# Altium schematic symbol library Maxim Amplifiers and Comparators.SchLib: 420 symbols (part 13 of 16)
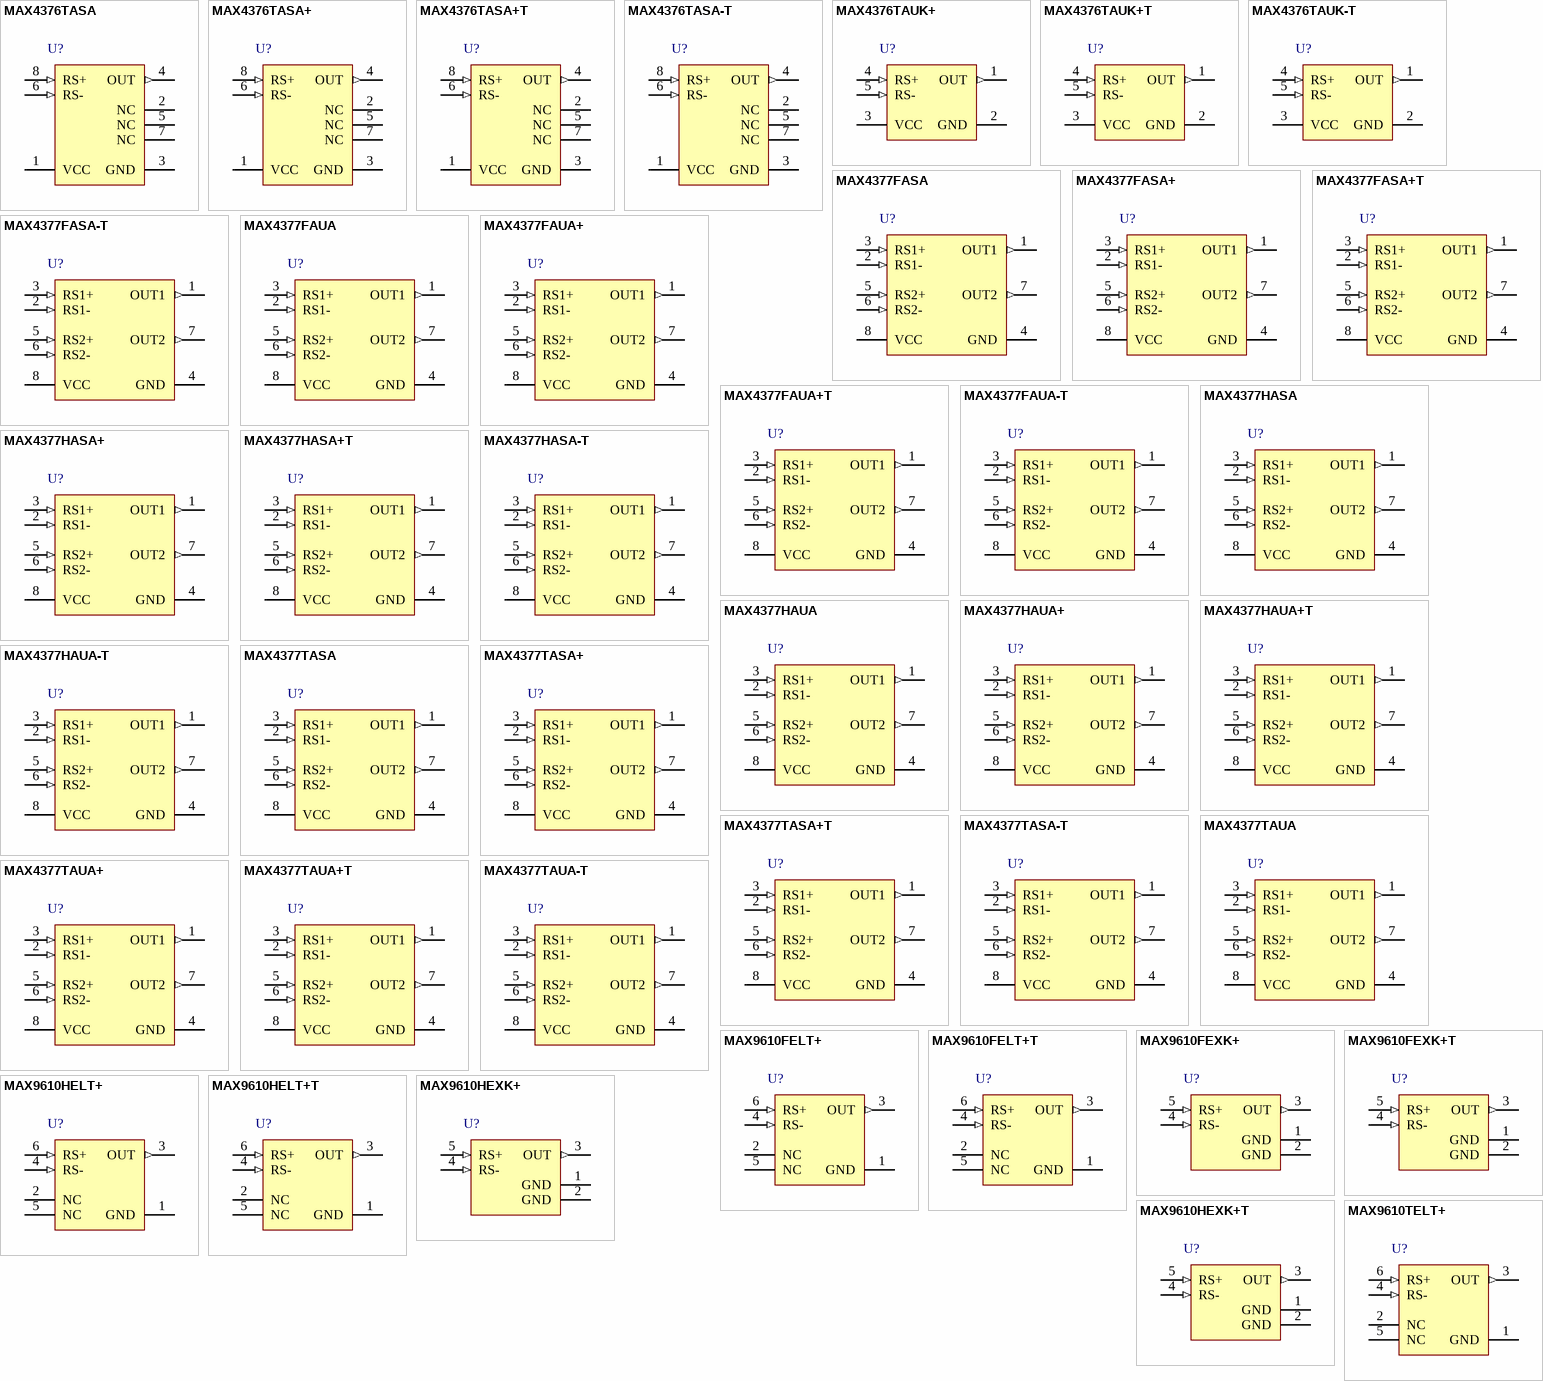
[diagram p22: symbols MAX4376TASA to MAX9610TELT+]

## MAX9610FEXK+T
designator U?
1 uA, Lithium-Ion Battery, Precision Current-Sense Amplifier, 50 V / V Gain, -40 to 85 degC, 5-Pin SOT23 (X5+1), Pb-Free, Tape and Reel; PartNumber: MAX9610FEXK+T; Bi-Dir. Curr. Sense: No; Gain: 25 V/V, 50 V/V ,100 V/V; DatasheetVersion: Rev. 0; PackageVersion: Rev. F, 06/2011; PackageReference: X5+1; PackageDescription: 5-Pin SC70 Transistor Package (X5+1), Body 2 x 1.25 mm, Pitch 0.65 mm; Supplier 1: Digi-Key; Supplier Part Number 1: MAX9610FEXK+T-ND; Supplier 2: Mouser; Supplier Part Number 2: 700-MAX9610FEXK+T; Mounting Technology: Surface Mount; Code_JEDEC: MO-203; ComponentLink1Description: Manufacturer URL; ComponentLink1URL: http://www.maximintegrated.com/; ComponentLink2Description: Datasheet; ComponentLink2URL: http://datasheets.maximintegrated.com/en/ds/MAX9610.pdf; ComponentLink3Description: Package Specification; ComponentLink3URL: http://pdfserv.maximintegrated.com/package_dwgs/21-0076.PDF
footprint MAXM-X5+1_N (SOT23, 5-Leads, Body 2x1.25mm, Pitch 0.65mm, IPC Medium Density)
footprint MAXM-X5+1_L (SOT23, 5-Leads, Body 2x1.25mm, Pitch 0.65mm, IPC High Density)
footprint MAXM-X5+1_M (SOT23, 5-Leads, Body 2x1.25mm, Pitch 0.65mm, IPC Low Density)
pins: 1 GND (power) "Ground", 2 GND (power) "Ground", 3 OUT (out) "Output", 4 RS- (in) "Load- Side Connection to External Sense Resistor", 5 RS+ (in) "Power-Side Connection to External Sense Resistor"

## MAX9610HELT+
designator U?
1 uA, Lithium-Ion Battery, Precision Current-Sense Amplifier, 100 V / V Gain, -40 to 85 degC, 6-Pin SON (L611+1), Pb-Free; PartNumber: MAX9610HELT+; Bi-Dir. Curr. Sense: No; Gain: 25 V/V, 50 V/V ,100 V/V; DatasheetVersion: Rev. 0; PackageVersion: Rev. G, 01/2012; PackageReference: L611+1; PackageDescription: 6-Pin Micro Dual Flatpack No Lead, Body 1 x 1.5 mm, Pitch 0.5 mm; Supplier 1: Mouser; Supplier Part Number 1: N/A; Mounting Technology: Surface Mount; Code_JEDEC: MO-252; ComponentLink1Description: Manufacturer URL; ComponentLink1URL: http://www.maximintegrated.com/; ComponentLink2Description: Datasheet; ComponentLink2URL: http://datasheets.maximintegrated.com/en/ds/MAX9610.pdf; ComponentLink3Description: Package Specification; ComponentLink3URL: http://pdfserv.maximintegrated.com/package_dwgs/21-0147.PDF
footprint MAXM-L611+1_V (SON, 6-Leads, Body 1.5x1mm, Pitch 0.5mm)
pins: 1 GND (power) "Ground", 2 NC "No Connection. Not internally connected.", 3 OUT (out) "Output", 4 RS- (in) "Load-Side Connection to External Sense Resistor", 5 NC "No Connection. Not internally connected.", 6 RS+ (in) "Power-Side Connection to External Sense Resistor"

## MAX9610HELT+T
designator U?
1 uA, Lithium-Ion Battery, Precision Current-Sense Amplifier, 100 V / V Gain, -40 to 85 degC, 6-Pin SON (L611+1), Pb-Free, Tape and Reel; PartNumber: MAX9610HELT+T; Bi-Dir. Curr. Sense: No; Gain: 25 V/V, 50 V/V ,100 V/V; DatasheetVersion: Rev. 0; PackageVersion: Rev. G, 01/2012; PackageReference: L611+1; PackageDescription: 6-Pin Micro Dual Flatpack No Lead, Body 1 x 1.5 mm, Pitch 0.5 mm; Supplier 1: Digi-Key; Supplier Part Number 1: MAX9610HELT+T-ND; Supplier 2: Mouser; Supplier Part Number 2: 700-MAX9610HELT+T; Mounting Technology: Surface Mount; Code_JEDEC: MO-252; ComponentLink1Description: Manufacturer URL; ComponentLink1URL: http://www.maximintegrated.com/; ComponentLink2Description: Datasheet; ComponentLink2URL: http://datasheets.maximintegrated.com/en/ds/MAX9610.pdf; ComponentLink3Description: Package Specification; ComponentLink3URL: http://pdfserv.maximintegrated.com/package_dwgs/21-0147.PDF
footprint MAXM-L611+1_V (SON, 6-Leads, Body 1.5x1mm, Pitch 0.5mm)
pins: 1 GND (power) "Ground", 2 NC "No Connection. Not internally connected.", 3 OUT (out) "Output", 4 RS- (in) "Load-Side Connection to External Sense Resistor", 5 NC "No Connection. Not internally connected.", 6 RS+ (in) "Power-Side Connection to External Sense Resistor"

## MAX9610HEXK+
designator U?
1 uA, Lithium-Ion Battery, Precision Current-Sense Amplifier, 100 V / V Gain, -40 to 85 degC, 5-Pin SOT23 (X5+1), Pb-Free; PartNumber: MAX9610HEXK+; Bi-Dir. Curr. Sense: No; Gain: 25 V/V, 50 V/V ,100 V/V; DatasheetVersion: Rev. 0; PackageVersion: Rev. F, 06/2011; PackageReference: X5+1; PackageDescription: 5-Pin SC70 Transistor Package (X5+1), Body 2 x 1.25 mm, Pitch 0.65 mm; Supplier 1: Mouser; Supplier Part Number 1: N/A; Mounting Technology: Surface Mount; Code_JEDEC: MO-203; ComponentLink1Description: Manufacturer URL; ComponentLink1URL: http://www.maximintegrated.com/; ComponentLink2Description: Datasheet; ComponentLink2URL: http://datasheets.maximintegrated.com/en/ds/MAX9610.pdf; ComponentLink3Description: Package Specification; ComponentLink3URL: http://pdfserv.maximintegrated.com/package_dwgs/21-0076.PDF
footprint MAXM-X5+1_N (SOT23, 5-Leads, Body 2x1.25mm, Pitch 0.65mm, IPC Medium Density)
footprint MAXM-X5+1_L (SOT23, 5-Leads, Body 2x1.25mm, Pitch 0.65mm, IPC High Density)
footprint MAXM-X5+1_M (SOT23, 5-Leads, Body 2x1.25mm, Pitch 0.65mm, IPC Low Density)
pins: 1 GND (power) "Ground", 2 GND (power) "Ground", 3 OUT (out) "Output", 4 RS- (in) "Load- Side Connection to External Sense Resistor", 5 RS+ (in) "Power-Side Connection to External Sense Resistor"

## MAX9610HEXK+T
designator U?
1 uA, Lithium-Ion Battery, Precision Current-Sense Amplifier, 100 V / V Gain, -40 to 85 degC, 5-Pin SOT23 (X5+1), Pb-Free, Tape and Reel; PartNumber: MAX9610HEXK+T; Bi-Dir. Curr. Sense: No; Gain: 25 V/V, 50 V/V ,100 V/V; DatasheetVersion: Rev. 0; PackageVersion: Rev. F, 06/2011; PackageReference: X5+1; PackageDescription: 5-Pin SC70 Transistor Package (X5+1), Body 2 x 1.25 mm, Pitch 0.65 mm; Supplier 1: Digi-Key; Supplier Part Number 1: MAX9610HEXK+T-ND; Supplier 2: Mouser; Supplier Part Number 2: 700-MAX9610HEXK+T; Mounting Technology: Surface Mount; Code_JEDEC: MO-203; ComponentLink1Description: Manufacturer URL; ComponentLink1URL: http://www.maximintegrated.com/; ComponentLink2Description: Datasheet; ComponentLink2URL: http://datasheets.maximintegrated.com/en/ds/MAX9610.pdf; ComponentLink3Description: Package Specification; ComponentLink3URL: http://pdfserv.maximintegrated.com/package_dwgs/21-0076.PDF
footprint MAXM-X5+1_N (SOT23, 5-Leads, Body 2x1.25mm, Pitch 0.65mm, IPC Medium Density)
footprint MAXM-X5+1_L (SOT23, 5-Leads, Body 2x1.25mm, Pitch 0.65mm, IPC High Density)
footprint MAXM-X5+1_M (SOT23, 5-Leads, Body 2x1.25mm, Pitch 0.65mm, IPC Low Density)
pins: 1 GND (power) "Ground", 2 GND (power) "Ground", 3 OUT (out) "Output", 4 RS- (in) "Load- Side Connection to External Sense Resistor", 5 RS+ (in) "Power-Side Connection to External Sense Resistor"

## MAX9610TELT+
designator U?
1 uA, Lithium-Ion Battery, Precision Current-Sense Amplifier, 25 V / V Gain, -40 to 85 degC, 6-Pin SON (L611+1), Pb-Free; PartNumber: MAX9610TELT+; Bi-Dir. Curr. Sense: No; Gain: 25 V/V, 50 V/V ,100 V/V; DatasheetVersion: Rev. 0; PackageVersion: Rev. G, 01/2012; PackageReference: L611+1; PackageDescription: 6-Pin Micro Dual Flatpack No Lead, Body 1 x 1.5 mm, Pitch 0.5 mm; Supplier 1: Mouser; Supplier Part Number 1: N/A; Mounting Technology: Surface Mount; Code_JEDEC: MO-252; ComponentLink1Description: Manufacturer URL; ComponentLink1URL: http://www.maximintegrated.com/; ComponentLink2Description: Datasheet; ComponentLink2URL: http://datasheets.maximintegrated.com/en/ds/MAX9610.pdf; ComponentLink3Description: Package Specification; ComponentLink3URL: http://pdfserv.maximintegrated.com/package_dwgs/21-0147.PDF
footprint MAXM-L611+1_V (SON, 6-Leads, Body 1.5x1mm, Pitch 0.5mm)
pins: 1 GND (power) "Ground", 2 NC "No Connection. Not internally connected.", 3 OUT (out) "Output", 4 RS- (in) "Load-Side Connection to External Sense Resistor", 5 NC "No Connection. Not internally connected.", 6 RS+ (in) "Power-Side Connection to External Sense Resistor"

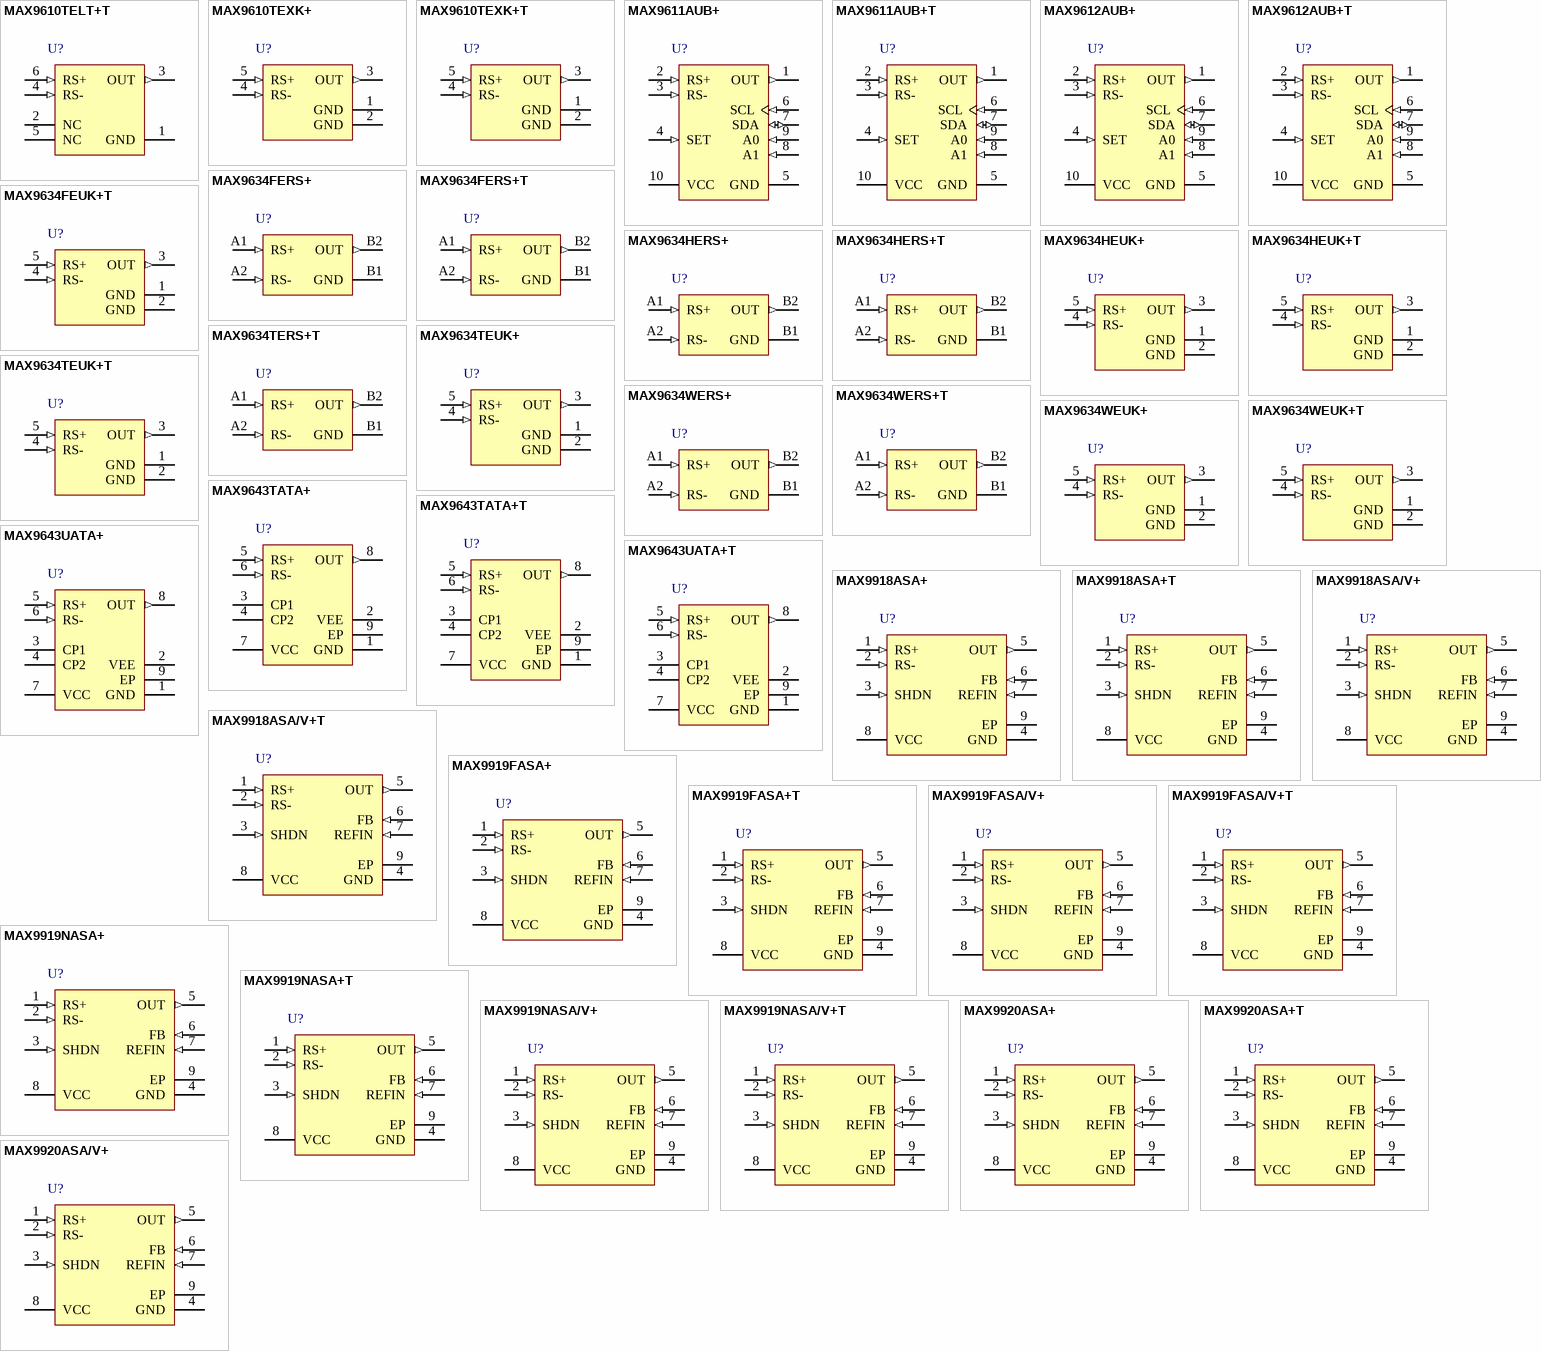
[diagram p8: symbols MAX9610TELT+T to MAX9920ASA/V+]

## MAX9610TELT+T
designator U?
1 uA, Lithium-Ion Battery, Precision Current-Sense Amplifier, 25 V / V Gain, -40 to 85 degC, 6-Pin SON (L611+1), Pb-Free, Tape and Reel; PartNumber: MAX9610TELT+T; Bi-Dir. Curr. Sense: No; Gain: 25 V/V, 50 V/V ,100 V/V; DatasheetVersion: Rev. 0; PackageVersion: Rev. G, 01/2012; PackageReference: L611+1; PackageDescription: 6-Pin Micro Dual Flatpack No Lead, Body 1 x 1.5 mm, Pitch 0.5 mm; Supplier 1: Digi-Key; Supplier Part Number 1: MAX9610TELT+T-ND; Supplier 2: Mouser; Supplier Part Number 2: 700-MAX9610TELT+T; Mounting Technology: Surface Mount; Code_JEDEC: MO-252; ComponentLink1Description: Manufacturer URL; ComponentLink1URL: http://www.maximintegrated.com/; ComponentLink2Description: Datasheet; ComponentLink2URL: http://datasheets.maximintegrated.com/en/ds/MAX9610.pdf; ComponentLink3Description: Package Specification; ComponentLink3URL: http://pdfserv.maximintegrated.com/package_dwgs/21-0147.PDF
footprint MAXM-L611+1_V (SON, 6-Leads, Body 1.5x1mm, Pitch 0.5mm)
pins: 1 GND (power) "Ground", 2 NC "No Connection. Not internally connected.", 3 OUT (out) "Output", 4 RS- (in) "Load-Side Connection to External Sense Resistor", 5 NC "No Connection. Not internally connected.", 6 RS+ (in) "Power-Side Connection to External Sense Resistor"

## MAX9610TEXK+
designator U?
1 uA, Lithium-Ion Battery, Precision Current-Sense Amplifier, 25 V / V Gain, -40 to 85 degC, 5-Pin SOT23 (X5+1), Pb-Free; PartNumber: MAX9610TEXK+; Bi-Dir. Curr. Sense: No; Gain: 25 V/V, 50 V/V ,100 V/V; DatasheetVersion: Rev. 0; PackageVersion: Rev. F, 06/2011; PackageReference: X5+1; PackageDescription: 5-Pin SC70 Transistor Package (X5+1), Body 2 x 1.25 mm, Pitch 0.65 mm; Supplier 1: Mouser; Supplier Part Number 1: N/A; Mounting Technology: Surface Mount; Code_JEDEC: MO-203; ComponentLink1Description: Manufacturer URL; ComponentLink1URL: http://www.maximintegrated.com/; ComponentLink2Description: Datasheet; ComponentLink2URL: http://datasheets.maximintegrated.com/en/ds/MAX9610.pdf; ComponentLink3Description: Package Specification; ComponentLink3URL: http://pdfserv.maximintegrated.com/package_dwgs/21-0076.PDF
footprint MAXM-X5+1_N (SOT23, 5-Leads, Body 2x1.25mm, Pitch 0.65mm, IPC Medium Density)
footprint MAXM-X5+1_L (SOT23, 5-Leads, Body 2x1.25mm, Pitch 0.65mm, IPC High Density)
footprint MAXM-X5+1_M (SOT23, 5-Leads, Body 2x1.25mm, Pitch 0.65mm, IPC Low Density)
pins: 1 GND (power) "Ground", 2 GND (power) "Ground", 3 OUT (out) "Output", 4 RS- (in) "Load- Side Connection to External Sense Resistor", 5 RS+ (in) "Power-Side Connection to External Sense Resistor"

## MAX9610TEXK+T
designator U?
1 uA, Lithium-Ion Battery, Precision Current-Sense Amplifier, 25 V / V Gain, -40 to 85 degC, 5-Pin SOT23 (X5+1), Pb-Free, Tape and Reel; PartNumber: MAX9610TEXK+T; Bi-Dir. Curr. Sense: No; Gain: 25 V/V, 50 V/V ,100 V/V; DatasheetVersion: Rev. 0; PackageVersion: Rev. F, 06/2011; PackageReference: X5+1; PackageDescription: 5-Pin SC70 Transistor Package (X5+1), Body 2 x 1.25 mm, Pitch 0.65 mm; Supplier 1: Digi-Key; Supplier Part Number 1: MAX9610TEXK+T-ND; Supplier 2: Mouser; Supplier Part Number 2: 700-MAX9610TEXK+T; Mounting Technology: Surface Mount; Code_JEDEC: MO-203; ComponentLink1Description: Manufacturer URL; ComponentLink1URL: http://www.maximintegrated.com/; ComponentLink2Description: Datasheet; ComponentLink2URL: http://datasheets.maximintegrated.com/en/ds/MAX9610.pdf; ComponentLink3Description: Package Specification; ComponentLink3URL: http://pdfserv.maximintegrated.com/package_dwgs/21-0076.PDF
footprint MAXM-X5+1_N (SOT23, 5-Leads, Body 2x1.25mm, Pitch 0.65mm, IPC Medium Density)
footprint MAXM-X5+1_L (SOT23, 5-Leads, Body 2x1.25mm, Pitch 0.65mm, IPC High Density)
footprint MAXM-X5+1_M (SOT23, 5-Leads, Body 2x1.25mm, Pitch 0.65mm, IPC Low Density)
pins: 1 GND (power) "Ground", 2 GND (power) "Ground", 3 OUT (out) "Output", 4 RS- (in) "Load- Side Connection to External Sense Resistor", 5 RS+ (in) "Power-Side Connection to External Sense Resistor"

## MAX9611AUB+
designator U?
High-side Current-Sense Amplifier with 12-bit I2C ADC and Op Amp / Comparator - Non-inverting, Adjustable Gain, -40 to 125 degC, 10-Pin SOP (U10+2), Pb-Free; PartNumber: MAX9611AUB+; Bi-Dir. Curr. Sense: No; Gain: Adj.; DatasheetVersion: Rev. 3; PackageVersion: Rev. L, 07/2008; PackageReference: U10+2; PackageDescription: 10-Pin Micro-MAX, Thin Shrink Small-Outline (U10+2), Body 3 x 3 mm, Pitch 0.5 mm; Supplier 1: Digi-Key; Supplier Part Number 1: MAX9611AUB+-ND; Supplier 2: Farnell; Supplier Part Number 2: 2212297; Supplier 3: Newark; Supplier Part Number 3: 45W6334; Supplier 4: Mouser; Supplier Part Number 4: 700-MAX9611AUB+; Mounting Technology: Surface Mount; Code_JEDEC: MO-187; ComponentLink1Description: Manufacturer URL; ComponentLink1URL: http://www.maximintegrated.com/; ComponentLink2Description: Datasheet; ComponentLink2URL: http://datasheets.maximintegrated.com/en/ds/MAX9611-MAX9612.pdf; ComponentLink3Description: Package Specification; ComponentLink3URL: http://pdfserv.maximintegrated.com/package_dwgs/21-0061.PDF
footprint MAXM-U10+2_N (SOP, 10-Leads, Body 3x3mm, Pitch 0.5mm, IPC Medium Density)
footprint MAXM-U10+2_L (SOP, 10-Leads, Body 3x3mm, Pitch 0.5mm, IPC High Density)
footprint MAXM-U10+2_M (SOP, 10-Leads, Body 3x3mm, Pitch 0.5mm, IPC Low Density)
pins: 1 OUT (out) "Internal Amplifier/Comparator Output", 2 RS+ (in) "Positive Current-Sensing Input. Power side connects to external sense resistor.", 3 RS- (in) "Negative Current-Sensing Input. Load side connects to external sense resistor.", 4 SET (in) "External Set-Point Voltage", 5 GND (power) "Ground", 6 SCL (in) "I2C Interface Clock Input", 7 SDA (io) "I2C Interface Data Input/Output", 8 A1 (in) "Address Input 1", 9 A0 (in) "Address Input 0", 10 VCC (power) "Supply Voltage Input. Bypass VCC to GND with a 0.1uF and a 4.7uF capacitor in parallel."

## MAX9611AUB+T
designator U?
High-side Current-Sense Amplifier with 12-bit I2C ADC and Op Amp / Comparator - Non-inverting, Adjustable Gain, -40 to 125 degC, 10-Pin SOP (U10+2), Pb-Free, Tape and Reel; PartNumber: MAX9611AUB+T; Bi-Dir. Curr. Sense: No; Gain: Adj.; DatasheetVersion: Rev. 3; PackageVersion: Rev. L, 07/2008; PackageReference: U10+2; PackageDescription: 10-Pin Micro-MAX, Thin Shrink Small-Outline (U10+2), Body 3 x 3 mm, Pitch 0.5 mm; Supplier 1: Digi-Key; Supplier Part Number 1: MAX9611AUB+T-ND; Supplier 2: Mouser; Supplier Part Number 2: 700-MAX9611AUB+T; Mounting Technology: Surface Mount; Code_JEDEC: MO-187; ComponentLink1Description: Manufacturer URL; ComponentLink1URL: http://www.maximintegrated.com/; ComponentLink2Description: Datasheet; ComponentLink2URL: http://datasheets.maximintegrated.com/en/ds/MAX9611-MAX9612.pdf; ComponentLink3Description: Package Specification; ComponentLink3URL: http://pdfserv.maximintegrated.com/package_dwgs/21-0061.PDF
footprint MAXM-U10+2_N (SOP, 10-Leads, Body 3x3mm, Pitch 0.5mm, IPC Medium Density)
footprint MAXM-U10+2_L (SOP, 10-Leads, Body 3x3mm, Pitch 0.5mm, IPC High Density)
footprint MAXM-U10+2_M (SOP, 10-Leads, Body 3x3mm, Pitch 0.5mm, IPC Low Density)
pins: 1 OUT (out) "Internal Amplifier/Comparator Output", 2 RS+ (in) "Positive Current-Sensing Input. Power side connects to external sense resistor.", 3 RS- (in) "Negative Current-Sensing Input. Load side connects to external sense resistor.", 4 SET (in) "External Set-Point Voltage", 5 GND (power) "Ground", 6 SCL (in) "I2C Interface Clock Input", 7 SDA (io) "I2C Interface Data Input/Output", 8 A1 (in) "Address Input 1", 9 A0 (in) "Address Input 0", 10 VCC (power) "Supply Voltage Input. Bypass VCC to GND with a 0.1uF and a 4.7uF capacitor in parallel."

## MAX9612AUB+
designator U?
High-side Current-Sense Amplifier with 12-bit I2C ADC and Op Amp / Comparator - Inverting, Adjustable Gain, -40 to 125 degC, 10-Pin SOP (U10+2), Pb-Free; PartNumber: MAX9612AUB+; Bi-Dir. Curr. Sense: No; Gain: Adj.; DatasheetVersion: Rev. 3; PackageVersion: Rev. L, 07/2008; PackageReference: U10+2; PackageDescription: 10-Pin Micro-MAX, Thin Shrink Small-Outline (U10+2), Body 3 x 3 mm, Pitch 0.5 mm; Supplier 1: Digi-Key; Supplier Part Number 1: MAX9612AUB+-ND; Supplier 2: Mouser; Supplier Part Number 2: 700-MAX9612AUB+; Mounting Technology: Surface Mount; Code_JEDEC: MO-187; ComponentLink1Description: Manufacturer URL; ComponentLink1URL: http://www.maximintegrated.com/; ComponentLink2Description: Datasheet; ComponentLink2URL: http://datasheets.maximintegrated.com/en/ds/MAX9611-MAX9612.pdf; ComponentLink3Description: Package Specification; ComponentLink3URL: http://pdfserv.maximintegrated.com/package_dwgs/21-0061.PDF
footprint MAXM-U10+2_N (SOP, 10-Leads, Body 3x3mm, Pitch 0.5mm, IPC Medium Density)
footprint MAXM-U10+2_L (SOP, 10-Leads, Body 3x3mm, Pitch 0.5mm, IPC High Density)
footprint MAXM-U10+2_M (SOP, 10-Leads, Body 3x3mm, Pitch 0.5mm, IPC Low Density)
pins: 1 OUT (out) "Internal Amplifier/Comparator Output", 2 RS+ (in) "Positive Current-Sensing Input. Power side connects to external sense resistor.", 3 RS- (in) "Negative Current-Sensing Input. Load side connects to external sense resistor.", 4 SET (in) "External Set-Point Voltage", 5 GND (power) "Ground", 6 SCL (in) "I2C Interface Clock Input", 7 SDA (io) "I2C Interface Data Input/Output", 8 A1 (in) "Address Input 1", 9 A0 (in) "Address Input 0", 10 VCC (power) "Supply Voltage Input. Bypass VCC to GND with a 0.1uF and a 4.7uF capacitor in parallel."

## MAX9612AUB+T
designator U?
High-side Current-Sense Amplifier with 12-bit I2C ADC and Op Amp / Comparator - Inverting, Adjustable Gain, -40 to 125 degC, 10-Pin SOP (U10+2), Pb-Free, Tape and Reel; PartNumber: MAX9612AUB+T; Bi-Dir. Curr. Sense: No; Gain: Adj.; DatasheetVersion: Rev. 3; PackageVersion: Rev. L, 07/2008; PackageReference: U10+2; PackageDescription: 10-Pin Micro-MAX, Thin Shrink Small-Outline (U10+2), Body 3 x 3 mm, Pitch 0.5 mm; Supplier 1: Digi-Key; Supplier Part Number 1: MAX9612AUB+T-ND; Supplier 2: Mouser; Supplier Part Number 2: 700-MAX9612AUB+T; Mounting Technology: Surface Mount; Code_JEDEC: MO-187; ComponentLink1Description: Manufacturer URL; ComponentLink1URL: http://www.maximintegrated.com/; ComponentLink2Description: Datasheet; ComponentLink2URL: http://datasheets.maximintegrated.com/en/ds/MAX9611-MAX9612.pdf; ComponentLink3Description: Package Specification; ComponentLink3URL: http://pdfserv.maximintegrated.com/package_dwgs/21-0061.PDF
footprint MAXM-U10+2_N (SOP, 10-Leads, Body 3x3mm, Pitch 0.5mm, IPC Medium Density)
footprint MAXM-U10+2_L (SOP, 10-Leads, Body 3x3mm, Pitch 0.5mm, IPC High Density)
footprint MAXM-U10+2_M (SOP, 10-Leads, Body 3x3mm, Pitch 0.5mm, IPC Low Density)
pins: 1 OUT (out) "Internal Amplifier/Comparator Output", 2 RS+ (in) "Positive Current-Sensing Input. Power side connects to external sense resistor.", 3 RS- (in) "Negative Current-Sensing Input. Load side connects to external sense resistor.", 4 SET (in) "External Set-Point Voltage", 5 GND (power) "Ground", 6 SCL (in) "I2C Interface Clock Input", 7 SDA (io) "I2C Interface Data Input/Output", 8 A1 (in) "Address Input 1", 9 A0 (in) "Address Input 0", 10 VCC (power) "Supply Voltage Input. Bypass VCC to GND with a 0.1uF and a 4.7uF capacitor in parallel."

## MAX9634FERS+
designator U?
1 uA, 4-Bump, Precision Current-Sense Amplifier, 50 V / V Gain, -40 to 85 degC, 4-Pin BGA (R41A1+1), Pb-Free; PartNumber: MAX9634FERS+; Bi-Dir. Curr. Sense: No; Gain: 25 V/V, 50 V/V ,100 V/V ,200 V/V; DatasheetVersion: Rev. 2; PackageVersion: Rev. A, 06/2008; PackageReference: R41A1+1; PackageDescription: 4-Pin Ultra Chip-Scale Package, Body 1 x 1 mm, Pitch 0.5 mm; Supplier 1: Mouser; Supplier Part Number 1: N/A; Mounting Technology: Surface Mount; ComponentLink1Description: Manufacturer URL; ComponentLink1URL: http://www.maximintegrated.com/; ComponentLink2Description: Datasheet; ComponentLink2URL: http://datasheets.maximintegrated.com/en/ds/MAX9634.pdf; ComponentLink3Description: Package Specification; ComponentLink3URL: http://pdfserv.maximintegrated.com/package_dwgs/21-0242.PDF
footprint MAXM-R41A1+1 (BGA, 4-Balls, Body 1x1mm, Pitch 0.5mm)
pins: A1 RS+ (in) "External Sense Resistor Power-Side Connection", A2 RS- (in) "External Sense Resistor Load-Side Connection", B1 GND (power) "Ground", B2 OUT (out) "Output Voltage. VOUT is proportional to VSENSE = VRS+ - VRS-."

## MAX9634FERS+T
designator U?
1 uA, 4-Bump, Precision Current-Sense Amplifier, 50 V / V Gain, -40 to 85 degC, 4-Pin BGA (R41A1+1), Pb-Free, Tape and Reel; PartNumber: MAX9634FERS+T; Bi-Dir. Curr. Sense: No; Gain: 25 V/V, 50 V/V ,100 V/V ,200 V/V; DatasheetVersion: Rev. 2; PackageVersion: Rev. A, 06/2008; PackageReference: R41A1+1; PackageDescription: 4-Pin Ultra Chip-Scale Package, Body 1 x 1 mm, Pitch 0.5 mm; Supplier 1: Digi-Key; Supplier Part Number 1: MAX9634FERS+TTR-ND; Supplier 2: Digi-Key; Supplier Part Number 2: MAX9634FERS+TCT-ND; Supplier 3: Digi-Key; Supplier Part Number 3: MAX9634FERS+TDKR-ND; Supplier 4: Mouser; Supplier Part Number 4: 700-MAX9634FERST; Mounting Technology: Surface Mount; ComponentLink1Description: Manufacturer URL; ComponentLink1URL: http://www.maximintegrated.com/; ComponentLink2Description: Datasheet; ComponentLink2URL: http://datasheets.maximintegrated.com/en/ds/MAX9634.pdf; ComponentLink3Description: Package Specification; ComponentLink3URL: http://pdfserv.maximintegrated.com/package_dwgs/21-0242.PDF
footprint MAXM-R41A1+1 (BGA, 4-Balls, Body 1x1mm, Pitch 0.5mm)
pins: A1 RS+ (in) "External Sense Resistor Power-Side Connection", A2 RS- (in) "External Sense Resistor Load-Side Connection", B1 GND (power) "Ground", B2 OUT (out) "Output Voltage. VOUT is proportional to VSENSE = VRS+ - VRS-."

## MAX9634FEUK+T
designator U?
1 uA, 4-Bump, Precision Current-Sense Amplifier, 50 V / V Gain, -40 to 85 degC, 5-Pin SOT23 (U5+2), Pb-Free, Tape and Reel; PartNumber: MAX9634FEUK+T; Bi-Dir. Curr. Sense: No; Gain: 25 V/V, 50 V/V ,100 V/V ,200 V/V; DatasheetVersion: Rev. 2; PackageVersion: Rev. G, 04/2011; PackageReference: U5+2; PackageDescription: 5-Pin Small-Outline Transistor Package, Body 1.625 x 2.9 mm, Pitch 0.95 mm; Supplier 1: Digi-Key; Supplier Part Number 1: MAX9634FEUK+TTR-ND; Supplier 2: Digi-Key; Supplier Part Number 2: MAX9634FEUK+TCT-ND; Supplier 3: Digi-Key; Supplier Part Number 3: MAX9634FEUK+TDKR-ND; Supplier 4: Mouser; Supplier Part Number 4: 700-MAX9634FEUKT; Mounting Technology: Surface Mount; Code_JEDEC: MO178; ComponentLink1Description: Manufacturer URL; ComponentLink1URL: http://www.maximintegrated.com/; ComponentLink2Description: Datasheet; ComponentLink2URL: http://datasheets.maximintegrated.com/en/ds/MAX9634.pdf; ComponentLink3Description: Package Specification; ComponentLink3URL: http://pdfserv.maximintegrated.com/package_dwgs/21-0057.PDF
footprint MAXM-U5+2_N (SOT23, 5-Leads, Body 2.9x1.625mm, Pitch 0.95mm, IPC Medium Density)
footprint MAXM-U5+2_L (SOT23, 5-Leads, Body 2.9x1.625mm, Pitch 0.95mm, IPC High Density)
footprint MAXM-U5+2_M (SOT23, 5-Leads, Body 2.9x1.625mm, Pitch 0.95mm, IPC Low Density)
pins: 1 GND (power) "Ground", 2 GND (power) "Ground", 3 OUT (out) "Output", 4 RS- (in) "Load- Side Connection to External Sense Resistor", 5 RS+ (in) "Power-Side Connection to External Sense Resistor"

## MAX9634HERS+
designator U?
1 uA, 4-Bump, Precision Current-Sense Amplifier, 100 V / V Gain, -40 to 85 degC, 4-Pin BGA (R41A1+1), Pb-Free; PartNumber: MAX9634HERS+; Bi-Dir. Curr. Sense: No; Gain: 25 V/V, 50 V/V ,100 V/V ,200 V/V; DatasheetVersion: Rev. 2; PackageVersion: Rev. A, 06/2008; PackageReference: R41A1+1; PackageDescription: 4-Pin Ultra Chip-Scale Package, Body 1 x 1 mm, Pitch 0.5 mm; Supplier 1: Mouser; Supplier Part Number 1: N/A; Mounting Technology: Surface Mount; ComponentLink1Description: Manufacturer URL; ComponentLink1URL: http://www.maximintegrated.com/; ComponentLink2Description: Datasheet; ComponentLink2URL: http://datasheets.maximintegrated.com/en/ds/MAX9634.pdf; ComponentLink3Description: Package Specification; ComponentLink3URL: http://pdfserv.maximintegrated.com/package_dwgs/21-0242.PDF
footprint MAXM-R41A1+1 (BGA, 4-Balls, Body 1x1mm, Pitch 0.5mm)
pins: A1 RS+ (in) "External Sense Resistor Power-Side Connection", A2 RS- (in) "External Sense Resistor Load-Side Connection", B1 GND (power) "Ground", B2 OUT (out) "Output Voltage. VOUT is proportional to VSENSE = VRS+ - VRS-."

## MAX9634HERS+T
designator U?
1 uA, 4-Bump, Precision Current-Sense Amplifier, 100 V / V Gain, -40 to 85 degC, 4-Pin BGA (R41A1+1), Pb-Free, Tape and Reel; PartNumber: MAX9634HERS+T; Bi-Dir. Curr. Sense: No; Gain: 25 V/V, 50 V/V ,100 V/V ,200 V/V; DatasheetVersion: Rev. 2; PackageVersion: Rev. A, 06/2008; PackageReference: R41A1+1; PackageDescription: 4-Pin Ultra Chip-Scale Package, Body 1 x 1 mm, Pitch 0.5 mm; Supplier 1: Digi-Key; Supplier Part Number 1: MAX9634HERS+TTR-ND; Supplier 2: Digi-Key; Supplier Part Number 2: MAX9634HERS+TCT-ND; Supplier 3: Digi-Key; Supplier Part Number 3: MAX9634HERS+TDKR-ND; Supplier 4: Mouser; Supplier Part Number 4: 700-MAX9634HERST; Mounting Technology: Surface Mount; ComponentLink1Description: Manufacturer URL; ComponentLink1URL: http://www.maximintegrated.com/; ComponentLink2Description: Datasheet; ComponentLink2URL: http://datasheets.maximintegrated.com/en/ds/MAX9634.pdf; ComponentLink3Description: Package Specification; ComponentLink3URL: http://pdfserv.maximintegrated.com/package_dwgs/21-0242.PDF
footprint MAXM-R41A1+1 (BGA, 4-Balls, Body 1x1mm, Pitch 0.5mm)
pins: A1 RS+ (in) "External Sense Resistor Power-Side Connection", A2 RS- (in) "External Sense Resistor Load-Side Connection", B1 GND (power) "Ground", B2 OUT (out) "Output Voltage. VOUT is proportional to VSENSE = VRS+ - VRS-."

## MAX9634HEUK+
designator U?
1 uA, 4-Bump, Precision Current-Sense Amplifier, 100 V / V Gain, -40 to 85 degC, 5-Pin SOT23 (U5+2), Pb-Free; PartNumber: MAX9634HEUK+; Bi-Dir. Curr. Sense: No; Gain: 25 V/V, 50 V/V ,100 V/V ,200 V/V; DatasheetVersion: Rev. 2; PackageVersion: Rev. G, 04/2011; PackageReference: U5+2; PackageDescription: 5-Pin Small-Outline Transistor Package, Body 1.625 x 2.9 mm, Pitch 0.95 mm; Supplier 1: Mouser; Supplier Part Number 1: N/A; Mounting Technology: Surface Mount; Code_JEDEC: MO178; ComponentLink1Description: Manufacturer URL; ComponentLink1URL: http://www.maximintegrated.com/; ComponentLink2Description: Datasheet; ComponentLink2URL: http://datasheets.maximintegrated.com/en/ds/MAX9634.pdf; ComponentLink3Description: Package Specification; ComponentLink3URL: http://pdfserv.maximintegrated.com/package_dwgs/21-0057.PDF
footprint MAXM-U5+2_N (SOT23, 5-Leads, Body 2.9x1.625mm, Pitch 0.95mm, IPC Medium Density)
footprint MAXM-U5+2_L (SOT23, 5-Leads, Body 2.9x1.625mm, Pitch 0.95mm, IPC High Density)
footprint MAXM-U5+2_M (SOT23, 5-Leads, Body 2.9x1.625mm, Pitch 0.95mm, IPC Low Density)
pins: 1 GND (power) "Ground", 2 GND (power) "Ground", 3 OUT (out) "Output", 4 RS- (in) "Load- Side Connection to External Sense Resistor", 5 RS+ (in) "Power-Side Connection to External Sense Resistor"

## MAX9634HEUK+T
designator U?
1 uA, 4-Bump, Precision Current-Sense Amplifier, 100 V / V Gain, -40 to 85 degC, 5-Pin SOT23 (U5+2), Pb-Free, Tape and Reel; PartNumber: MAX9634HEUK+T; Bi-Dir. Curr. Sense: No; Gain: 25 V/V, 50 V/V ,100 V/V ,200 V/V; DatasheetVersion: Rev. 2; PackageVersion: Rev. G, 04/2011; PackageReference: U5+2; PackageDescription: 5-Pin Small-Outline Transistor Package, Body 1.625 x 2.9 mm, Pitch 0.95 mm; Supplier 1: Digi-Key; Supplier Part Number 1: MAX9634HEUK+TTR-ND; Supplier 2: Digi-Key; Supplier Part Number 2: MAX9634HEUK+TCT-ND; Supplier 3: Digi-Key; Supplier Part Number 3: MAX9634HEUK+TDKR-ND; Supplier 4: Mouser; Supplier Part Number 4: 700-MAX9634HEUKT; Mounting Technology: Surface Mount; Code_JEDEC: MO178; ComponentLink1Description: Manufacturer URL; ComponentLink1URL: http://www.maximintegrated.com/; ComponentLink2Description: Datasheet; ComponentLink2URL: http://datasheets.maximintegrated.com/en/ds/MAX9634.pdf; ComponentLink3Description: Package Specification; ComponentLink3URL: http://pdfserv.maximintegrated.com/package_dwgs/21-0057.PDF
footprint MAXM-U5+2_N (SOT23, 5-Leads, Body 2.9x1.625mm, Pitch 0.95mm, IPC Medium Density)
footprint MAXM-U5+2_L (SOT23, 5-Leads, Body 2.9x1.625mm, Pitch 0.95mm, IPC High Density)
footprint MAXM-U5+2_M (SOT23, 5-Leads, Body 2.9x1.625mm, Pitch 0.95mm, IPC Low Density)
pins: 1 GND (power) "Ground", 2 GND (power) "Ground", 3 OUT (out) "Output", 4 RS- (in) "Load- Side Connection to External Sense Resistor", 5 RS+ (in) "Power-Side Connection to External Sense Resistor"

## MAX9634TERS+T
designator U?
1 uA, 4-Bump, Precision Current-Sense Amplifier, 25 V / V Gain, -40 to 85 degC, 4-Pin BGA (R41A1+1), Pb-Free, Tape and Reel; PartNumber: MAX9634TERS+T; Bi-Dir. Curr. Sense: No; Gain: 25 V/V, 50 V/V ,100 V/V ,200 V/V; DatasheetVersion: Rev. 2; PackageVersion: Rev. A, 06/2008; PackageReference: R41A1+1; PackageDescription: 4-Pin Ultra Chip-Scale Package, Body 1 x 1 mm, Pitch 0.5 mm; Supplier 1: Digi-Key; Supplier Part Number 1: MAX9634TERS+TTR-ND; Supplier 2: Digi-Key; Supplier Part Number 2: MAX9634TERS+TCT-ND; Supplier 3: Digi-Key; Supplier Part Number 3: MAX9634TERS+TDKR-ND; Supplier 4: Mouser; Supplier Part Number 4: 700-MAX9634TERST; Mounting Technology: Surface Mount; ComponentLink1Description: Manufacturer URL; ComponentLink1URL: http://www.maximintegrated.com/; ComponentLink2Description: Datasheet; ComponentLink2URL: http://datasheets.maximintegrated.com/en/ds/MAX9634.pdf; ComponentLink3Description: Package Specification; ComponentLink3URL: http://pdfserv.maximintegrated.com/package_dwgs/21-0242.PDF
footprint MAXM-R41A1+1 (BGA, 4-Balls, Body 1x1mm, Pitch 0.5mm)
pins: A1 RS+ (in) "External Sense Resistor Power-Side Connection", A2 RS- (in) "External Sense Resistor Load-Side Connection", B1 GND (power) "Ground", B2 OUT (out) "Output Voltage. VOUT is proportional to VSENSE = VRS+ - VRS-."

## MAX9634TEUK+
designator U?
1 uA, 4-Bump, Precision Current-Sense Amplifier, 25 V / V Gain, -40 to 85 degC, 5-Pin SOT23 (U5+2), Pb-Free; PartNumber: MAX9634TEUK+; Bi-Dir. Curr. Sense: No; Gain: 25 V/V, 50 V/V ,100 V/V ,200 V/V; DatasheetVersion: Rev. 2; PackageVersion: Rev. G, 04/2011; PackageReference: U5+2; PackageDescription: 5-Pin Small-Outline Transistor Package, Body 1.625 x 2.9 mm, Pitch 0.95 mm; Supplier 1: Mouser; Supplier Part Number 1: N/A; Mounting Technology: Surface Mount; Code_JEDEC: MO178; ComponentLink1Description: Manufacturer URL; ComponentLink1URL: http://www.maximintegrated.com/; ComponentLink2Description: Datasheet; ComponentLink2URL: http://datasheets.maximintegrated.com/en/ds/MAX9634.pdf; ComponentLink3Description: Package Specification; ComponentLink3URL: http://pdfserv.maximintegrated.com/package_dwgs/21-0057.PDF
footprint MAXM-U5+2_N (SOT23, 5-Leads, Body 2.9x1.625mm, Pitch 0.95mm, IPC Medium Density)
footprint MAXM-U5+2_L (SOT23, 5-Leads, Body 2.9x1.625mm, Pitch 0.95mm, IPC High Density)
footprint MAXM-U5+2_M (SOT23, 5-Leads, Body 2.9x1.625mm, Pitch 0.95mm, IPC Low Density)
pins: 1 GND (power) "Ground", 2 GND (power) "Ground", 3 OUT (out) "Output", 4 RS- (in) "Load- Side Connection to External Sense Resistor", 5 RS+ (in) "Power-Side Connection to External Sense Resistor"

## MAX9634TEUK+T
designator U?
1 uA, 4-Bump, Precision Current-Sense Amplifier, 25 V / V Gain, -40 to 85 degC, 5-Pin SOT23 (U5+2), Pb-Free, Tape and Reel; PartNumber: MAX9634TEUK+T; Bi-Dir. Curr. Sense: No; Gain: 25 V/V, 50 V/V ,100 V/V ,200 V/V; DatasheetVersion: Rev. 2; PackageVersion: Rev. G, 04/2011; PackageReference: U5+2; PackageDescription: 5-Pin Small-Outline Transistor Package, Body 1.625 x 2.9 mm, Pitch 0.95 mm; Supplier 1: Digi-Key; Supplier Part Number 1: MAX9634TEUK+TTR-ND; Supplier 2: Digi-Key; Supplier Part Number 2: MAX9634TEUK+TCT-ND; Supplier 3: Digi-Key; Supplier Part Number 3: MAX9634TEUK+TDKR-ND; Supplier 4: Mouser; Supplier Part Number 4: 700-MAX9634TEUKT; Mounting Technology: Surface Mount; Code_JEDEC: MO178; ComponentLink1Description: Manufacturer URL; ComponentLink1URL: http://www.maximintegrated.com/; ComponentLink2Description: Datasheet; ComponentLink2URL: http://datasheets.maximintegrated.com/en/ds/MAX9634.pdf; ComponentLink3Description: Package Specification; ComponentLink3URL: http://pdfserv.maximintegrated.com/package_dwgs/21-0057.PDF
footprint MAXM-U5+2_N (SOT23, 5-Leads, Body 2.9x1.625mm, Pitch 0.95mm, IPC Medium Density)
footprint MAXM-U5+2_L (SOT23, 5-Leads, Body 2.9x1.625mm, Pitch 0.95mm, IPC High Density)
footprint MAXM-U5+2_M (SOT23, 5-Leads, Body 2.9x1.625mm, Pitch 0.95mm, IPC Low Density)
pins: 1 GND (power) "Ground", 2 GND (power) "Ground", 3 OUT (out) "Output", 4 RS- (in) "Load- Side Connection to External Sense Resistor", 5 RS+ (in) "Power-Side Connection to External Sense Resistor"

## MAX9634WERS+
designator U?
1 uA, 4-Bump, Precision Current-Sense Amplifier, 200 V / V Gain, -40 to 85 degC, 4-Pin BGA (R41A1+1), Pb-Free; PartNumber: MAX9634WERS+; Bi-Dir. Curr. Sense: No; Gain: 25 V/V, 50 V/V ,100 V/V ,200 V/V; DatasheetVersion: Rev. 2; PackageVersion: Rev. A, 06/2008; PackageReference: R41A1+1; PackageDescription: 4-Pin Ultra Chip-Scale Package, Body 1 x 1 mm, Pitch 0.5 mm; Supplier 1: Mouser; Supplier Part Number 1: N/A; Mounting Technology: Surface Mount; ComponentLink1Description: Manufacturer URL; ComponentLink1URL: http://www.maximintegrated.com/; ComponentLink2Description: Datasheet; ComponentLink2URL: http://datasheets.maximintegrated.com/en/ds/MAX9634.pdf; ComponentLink3Description: Package Specification; ComponentLink3URL: http://pdfserv.maximintegrated.com/package_dwgs/21-0242.PDF
footprint MAXM-R41A1+1 (BGA, 4-Balls, Body 1x1mm, Pitch 0.5mm)
pins: A1 RS+ (in) "External Sense Resistor Power-Side Connection", A2 RS- (in) "External Sense Resistor Load-Side Connection", B1 GND (power) "Ground", B2 OUT (out) "Output Voltage. VOUT is proportional to VSENSE = VRS+ - VRS-."

## MAX9634WERS+T
designator U?
1 uA, 4-Bump, Precision Current-Sense Amplifier, 200 V / V Gain, -40 to 85 degC, 4-Pin BGA (R41A1+1), Pb-Free, Tape and Reel; PartNumber: MAX9634WERS+T; Bi-Dir. Curr. Sense: No; Gain: 25 V/V, 50 V/V ,100 V/V ,200 V/V; DatasheetVersion: Rev. 2; PackageVersion: Rev. A, 06/2008; PackageReference: R41A1+1; PackageDescription: 4-Pin Ultra Chip-Scale Package, Body 1 x 1 mm, Pitch 0.5 mm; Supplier 1: Digi-Key; Supplier Part Number 1: MAX9634WERS+TTR-ND; Supplier 2: Digi-Key; Supplier Part Number 2: MAX9634WERS+TCT-ND; Supplier 3: Digi-Key; Supplier Part Number 3: MAX9634WERS+TDKR-ND; Supplier 4: Mouser; Supplier Part Number 4: 700-MAX9634WERST; Mounting Technology: Surface Mount; ComponentLink1Description: Manufacturer URL; ComponentLink1URL: http://www.maximintegrated.com/; ComponentLink2Description: Datasheet; ComponentLink2URL: http://datasheets.maximintegrated.com/en/ds/MAX9634.pdf; ComponentLink3Description: Package Specification; ComponentLink3URL: http://pdfserv.maximintegrated.com/package_dwgs/21-0242.PDF
footprint MAXM-R41A1+1 (BGA, 4-Balls, Body 1x1mm, Pitch 0.5mm)
pins: A1 RS+ (in) "External Sense Resistor Power-Side Connection", A2 RS- (in) "External Sense Resistor Load-Side Connection", B1 GND (power) "Ground", B2 OUT (out) "Output Voltage. VOUT is proportional to VSENSE = VRS+ - VRS-."

## MAX9634WEUK+
designator U?
1 uA, 4-Bump, Precision Current-Sense Amplifier, 200 V / V Gain, -40 to 85 degC, 5-Pin SOT23 (U5+2), Pb-Free; PartNumber: MAX9634WEUK+; Bi-Dir. Curr. Sense: No; Gain: 25 V/V, 50 V/V ,100 V/V ,200 V/V; DatasheetVersion: Rev. 2; PackageVersion: Rev. G, 04/2011; PackageReference: U5+2; PackageDescription: 5-Pin Small-Outline Transistor Package, Body 1.625 x 2.9 mm, Pitch 0.95 mm; Supplier 1: Mouser; Supplier Part Number 1: N/A; Mounting Technology: Surface Mount; Code_JEDEC: MO178; ComponentLink1Description: Manufacturer URL; ComponentLink1URL: http://www.maximintegrated.com/; ComponentLink2Description: Datasheet; ComponentLink2URL: http://datasheets.maximintegrated.com/en/ds/MAX9634.pdf; ComponentLink3Description: Package Specification; ComponentLink3URL: http://pdfserv.maximintegrated.com/package_dwgs/21-0057.PDF
footprint MAXM-U5+2_N (SOT23, 5-Leads, Body 2.9x1.625mm, Pitch 0.95mm, IPC Medium Density)
footprint MAXM-U5+2_L (SOT23, 5-Leads, Body 2.9x1.625mm, Pitch 0.95mm, IPC High Density)
footprint MAXM-U5+2_M (SOT23, 5-Leads, Body 2.9x1.625mm, Pitch 0.95mm, IPC Low Density)
pins: 1 GND (power) "Ground", 2 GND (power) "Ground", 3 OUT (out) "Output", 4 RS- (in) "Load- Side Connection to External Sense Resistor", 5 RS+ (in) "Power-Side Connection to External Sense Resistor"

## MAX9634WEUK+T
designator U?
1 uA, 4-Bump, Precision Current-Sense Amplifier, 200 V / V Gain, -40 to 85 degC, 5-Pin SOT23 (U5+2), Pb-Free, Tape and Reel; PartNumber: MAX9634WEUK+T; Bi-Dir. Curr. Sense: No; Gain: 25 V/V, 50 V/V ,100 V/V ,200 V/V; DatasheetVersion: Rev. 2; PackageVersion: Rev. G, 04/2011; PackageReference: U5+2; PackageDescription: 5-Pin Small-Outline Transistor Package, Body 1.625 x 2.9 mm, Pitch 0.95 mm; Supplier 1: Digi-Key; Supplier Part Number 1: MAX9634WEUK+TTR-ND; Supplier 2: Digi-Key; Supplier Part Number 2: MAX9634WEUK+TCT-ND; Supplier 3: Digi-Key; Supplier Part Number 3: MAX9634WEUK+TDKR-ND; Supplier 4: Mouser; Supplier Part Number 4: 700-MAX9634WEUKT; Mounting Technology: Surface Mount; Code_JEDEC: MO178; ComponentLink1Description: Manufacturer URL; ComponentLink1URL: http://www.maximintegrated.com/; ComponentLink2Description: Datasheet; ComponentLink2URL: http://datasheets.maximintegrated.com/en/ds/MAX9634.pdf; ComponentLink3Description: Package Specification; ComponentLink3URL: http://pdfserv.maximintegrated.com/package_dwgs/21-0057.PDF
footprint MAXM-U5+2_N (SOT23, 5-Leads, Body 2.9x1.625mm, Pitch 0.95mm, IPC Medium Density)
footprint MAXM-U5+2_L (SOT23, 5-Leads, Body 2.9x1.625mm, Pitch 0.95mm, IPC High Density)
footprint MAXM-U5+2_M (SOT23, 5-Leads, Body 2.9x1.625mm, Pitch 0.95mm, IPC Low Density)
pins: 1 GND (power) "Ground", 2 GND (power) "Ground", 3 OUT (out) "Output", 4 RS- (in) "Load- Side Connection to External Sense Resistor", 5 RS+ (in) "Power-Side Connection to External Sense Resistor"

## MAX9643TATA+
designator U?
60 V High-Speed Precision Current-Sense Amplifier, 2.5V / V Gain, -40 to 125 degC, 8-Pin SON (T823+1), Pb-Free; PartNumber: MAX9643TATA+; Bi-Dir. Curr. Sense: No; Gain: 2.5V/V, 10V/V; DatasheetVersion: Rev. 0; PackageVersion: Rev. C, 04/2011; PackageReference: T823+1; PackageDescription: 8-Pin Plastic Very Very Thin Dual Flatpack No Leads, Body 3 x 2 mm, Exposed Pad 1.63 x 1.75 mm, Pitch 0.5 mm; Supplier 1: Mouser; Supplier Part Number 1: 700-MAX9643TATA+; Mounting Technology: Surface Mount; Code_JEDEC: MO-229; ComponentLink1Description: Manufacturer URL; ComponentLink1URL: http://www.maximintegrated.com/; ComponentLink2Description: Datasheet; ComponentLink2URL: http://datasheets.maximintegrated.com/en/ds/MAX9643.pdf; ComponentLink3Description: Package Specification; ComponentLink3URL: http://pdfserv.maximintegrated.com/package_dwgs/21-0174.PDF
footprint MAXM-T823+1_V (SON, 8-Leads, Body 3x2mm, Pitch 0.5mm, Thermal Pad 1.75X1.63mm)
pins: 1 GND (power) "Ground", 2 VEE (power) "Charge-Pump Output. Connect 1uF to GND.", 3 CP1 "Positive Terminal of 1uF Flying Capacitor", 4 CP2 "Negative Terminal of 1uF Flying Capacitor", 5 RS+ (in) "Positive Sense Resistor Input", 6 RS- (in) "Negative Sense Resistor Input", 7 VCC (power) "Power Supply", 8 OUT (out) "Output", 9 EP (power) "Exposed Pad. Must be externally connected to GND."

## MAX9643TATA+T
designator U?
60 V High-Speed Precision Current-Sense Amplifier, 2.5 V / V Gain, -40 to 125 degC, 8-Pin SON (T823+1), Pb-Free, Tape and Reel; PartNumber: MAX9643TATA+T; Bi-Dir. Curr. Sense: No; Gain: 2.5V/V, 10V/V; DatasheetVersion: Rev. 0; PackageVersion: Rev. C, 04/2011; PackageReference: T823+1; PackageDescription: 8-Pin Plastic Very Very Thin Dual Flatpack No Leads, Body 3 x 2 mm, Exposed Pad 1.63 x 1.75 mm, Pitch 0.5 mm; Supplier 1: Digi-Key; Supplier Part Number 1: MAX9643TATA+T-ND; Supplier 2: Mouser; Supplier Part Number 2: 700-MAX9643TATA+T; Mounting Technology: Surface Mount; Code_JEDEC: MO-229; ComponentLink1Description: Manufacturer URL; ComponentLink1URL: http://www.maximintegrated.com/; ComponentLink2Description: Datasheet; ComponentLink2URL: http://datasheets.maximintegrated.com/en/ds/MAX9643.pdf; ComponentLink3Description: Package Specification; ComponentLink3URL: http://pdfserv.maximintegrated.com/package_dwgs/21-0174.PDF
footprint MAXM-T823+1_V (SON, 8-Leads, Body 3x2mm, Pitch 0.5mm, Thermal Pad 1.75X1.63mm)
pins: 1 GND (power) "Ground", 2 VEE (power) "Charge-Pump Output. Connect 1uF to GND.", 3 CP1 "Positive Terminal of 1uF Flying Capacitor", 4 CP2 "Negative Terminal of 1uF Flying Capacitor", 5 RS+ (in) "Positive Sense Resistor Input", 6 RS- (in) "Negative Sense Resistor Input", 7 VCC (power) "Power Supply", 8 OUT (out) "Output", 9 EP (power) "Exposed Pad. Must be externally connected to GND."

## MAX9643UATA+
designator U?
60 V High-Speed Precision Current-Sense Amplifier, 10 V / V Gain, -40 to 125 degC, 8-Pin SON (T823+1), Pb-Free; PartNumber: MAX9643UATA+; Bi-Dir. Curr. Sense: No; Gain: 2.5V/V, 10V/V; DatasheetVersion: Rev. 0; PackageVersion: Rev. C, 04/2011; PackageReference: T823+1; PackageDescription: 8-Pin Plastic Very Very Thin Dual Flatpack No Leads, Body 3 x 2 mm, Exposed Pad 1.63 x 1.75 mm, Pitch 0.5 mm; Supplier 1: Mouser; Supplier Part Number 1: N/A; Mounting Technology: Surface Mount; Code_JEDEC: MO-229; ComponentLink1Description: Manufacturer URL; ComponentLink1URL: http://www.maximintegrated.com/; ComponentLink2Description: Datasheet; ComponentLink2URL: http://datasheets.maximintegrated.com/en/ds/MAX9643.pdf; ComponentLink3Description: Package Specification; ComponentLink3URL: http://pdfserv.maximintegrated.com/package_dwgs/21-0174.PDF
footprint MAXM-T823+1_V (SON, 8-Leads, Body 3x2mm, Pitch 0.5mm, Thermal Pad 1.75X1.63mm)
pins: 1 GND (power) "Ground", 2 VEE (power) "Charge-Pump Output. Connect 1uF to GND.", 3 CP1 "Positive Terminal of 1uF Flying Capacitor", 4 CP2 "Negative Terminal of 1uF Flying Capacitor", 5 RS+ (in) "Positive Sense Resistor Input", 6 RS- (in) "Negative Sense Resistor Input", 7 VCC (power) "Power Supply", 8 OUT (out) "Output", 9 EP (power) "Exposed Pad. Must be externally connected to GND."

## MAX9643UATA+T
designator U?
60 V High-Speed Precision Current-Sense Amplifier, 10 V / V Gain, -40 to 125 degC, 8-Pin SON (T823+1), Pb-Free, Tape and Reel; PartNumber: MAX9643UATA+T; Bi-Dir. Curr. Sense: No; Gain: 2.5V/V, 10V/V; DatasheetVersion: Rev. 0; PackageVersion: Rev. C, 04/2011; PackageReference: T823+1; PackageDescription: 8-Pin Plastic Very Very Thin Dual Flatpack No Leads, Body 3 x 2 mm, Exposed Pad 1.63 x 1.75 mm, Pitch 0.5 mm; Supplier 1: Digi-Key; Supplier Part Number 1: MAX9643UATA+TTR-ND; Supplier 2: Digi-Key; Supplier Part Number 2: MAX9643UATA+TCT-ND; Supplier 3: Digi-Key; Supplier Part Number 3: MAX9643UATA+TDKR-ND; Supplier 4: Mouser; Supplier Part Number 4: 700-MAX9643UATA+T; Mounting Technology: Surface Mount; Code_JEDEC: MO-229; ComponentLink1Description: Manufacturer URL; ComponentLink1URL: http://www.maximintegrated.com/; ComponentLink2Description: Datasheet; ComponentLink2URL: http://datasheets.maximintegrated.com/en/ds/MAX9643.pdf; ComponentLink3Description: Package Specification; ComponentLink3URL: http://pdfserv.maximintegrated.com/package_dwgs/21-0174.PDF
footprint MAXM-T823+1_V (SON, 8-Leads, Body 3x2mm, Pitch 0.5mm, Thermal Pad 1.75X1.63mm)
pins: 1 GND (power) "Ground", 2 VEE (power) "Charge-Pump Output. Connect 1uF to GND.", 3 CP1 "Positive Terminal of 1uF Flying Capacitor", 4 CP2 "Negative Terminal of 1uF Flying Capacitor", 5 RS+ (in) "Positive Sense Resistor Input", 6 RS- (in) "Negative Sense Resistor Input", 7 VCC (power) "Power Supply", 8 OUT (out) "Output", 9 EP (power) "Exposed Pad. Must be externally connected to GND."

## MAX9918ASA+
designator U?
-20 to 75 V Input Range, Precision Uni- / Bidirectional, Current-Sense Amplifier, Adjustable Gain, -40 to 125 degC, 8-Pin SOIC (S8E+14), Pb-Free; PartNumber: MAX9918ASA+; Bi-Dir. Curr. Sense: Yes; Gain: Adj.; Industry Qualified: Automotive - AECQ100, Automotive - General; DatasheetVersion: Rev. 4; PackageVersion: Rev. E, 01/2009; PackageReference: S8E+14; PackageDescription: 8-Pin Small-Outline IC, Narrow, Body 3.9 x 4.89 mm, Exposed Pad 2.945 x 2.26 mm, Pitch 1.27 mm; Supplier 1: Digi-Key; Supplier Part Number 1: MAX9918ASA+-ND; Supplier 2: Mouser; Supplier Part Number 2: 700-MAX9918ASA+; Mounting Technology: Surface Mount; Code_JEDEC: MS-012; ComponentLink1Description: Manufacturer URL; ComponentLink1URL: http://www.maximintegrated.com/; ComponentLink2Description: Datasheet; ComponentLink2URL: http://datasheets.maximintegrated.com/en/ds/MAX9918-MAX9920.pdf; ComponentLink3Description: Package Specification; ComponentLink3URL: http://pdfserv.maximintegrated.com/package_dwgs/21-0111.PDF
footprint MAXM-S8E+14_N (SOIC, 8-Leads, Body 4.89x3.9mm, Pitch 1.27mm, Thermal Pad 2.945x2.26mm, IPC Medium Density)
footprint MAXM-S8E+14_L (SOIC, 8-Leads, Body 4.89x3.9mm, Pitch 1.27mm, Thermal Pad 2.945x2.26mm, IPC High Density)
footprint MAXM-S8E+14_M (SOIC, 8-Leads, Body 4.89x3.9mm, Pitch 1.27mm, Thermal Pad 2.945x2.26mm, IPC Low Density)
pins: 1 RS+ (in) "Positive Current-Sensing Input. Power side connects to external sense resistor.", 2 RS- (in) "Negative Current-Sensing Input. Load side connects to external sense resistor.", 3 SHDN (in) "Active-High Shutdown Input. Connect to GND for normal operation.", 4 GND (power) "Ground", 5 OUT (out) "Current-Sense Output. VOUT is proportional to VSENSE.", 6 FB (in) "Feedback Input. Connect FB to a resistive-divider network to set the gain for the MAX9918 and MAX9920. See the Adjustable Gain (MAX9918/MAX9920) section for more information. Leave FB unconnected for the MAX9919 for proper (See Datasheet)", 7 REFIN (in) "Reference Input. Set REFIN to VCC/2 for bidirectional operation. Set REFIN to GND for unidirectional operation.", 8 VCC (power) "5V Supply Voltage Input. Bypass VCC to GND with 0.1uF capacitor.", 9 EP (power) "Exposed Pad. Connect to a large-area contiguous ground plane for improved power dissipation. Do not use as the only ground connection for the part."

## MAX9918ASA+T
designator U?
-20 to 75 V Input Range, Precision Uni- / Bidirectional, Current-Sense Amplifier, Adjustable Gain, -40 to 125 degC, 8-Pin SOIC (S8E+14), Pb-Free, Tape and Reel; PartNumber: MAX9918ASA+T; Bi-Dir. Curr. Sense: Yes; Gain: Adj.; Industry Qualified: Automotive - AECQ100, Automotive - General; DatasheetVersion: Rev. 4; PackageVersion: Rev. E, 01/2009; PackageReference: S8E+14; PackageDescription: 8-Pin Small-Outline IC, Narrow, Body 3.9 x 4.89 mm, Exposed Pad 2.945 x 2.26 mm, Pitch 1.27 mm; Supplier 1: Digi-Key; Supplier Part Number 1: MAX9918ASA+T-ND; Supplier 2: Mouser; Supplier Part Number 2: 700-MAX9918ASA+T; Mounting Technology: Surface Mount; Code_JEDEC: MS-012; ComponentLink1Description: Manufacturer URL; ComponentLink1URL: http://www.maximintegrated.com/; ComponentLink2Description: Datasheet; ComponentLink2URL: http://datasheets.maximintegrated.com/en/ds/MAX9918-MAX9920.pdf; ComponentLink3Description: Package Specification; ComponentLink3URL: http://pdfserv.maximintegrated.com/package_dwgs/21-0111.PDF
footprint MAXM-S8E+14_N (SOIC, 8-Leads, Body 4.89x3.9mm, Pitch 1.27mm, Thermal Pad 2.945x2.26mm, IPC Medium Density)
footprint MAXM-S8E+14_L (SOIC, 8-Leads, Body 4.89x3.9mm, Pitch 1.27mm, Thermal Pad 2.945x2.26mm, IPC High Density)
footprint MAXM-S8E+14_M (SOIC, 8-Leads, Body 4.89x3.9mm, Pitch 1.27mm, Thermal Pad 2.945x2.26mm, IPC Low Density)
pins: 1 RS+ (in) "Positive Current-Sensing Input. Power side connects to external sense resistor.", 2 RS- (in) "Negative Current-Sensing Input. Load side connects to external sense resistor.", 3 SHDN (in) "Active-High Shutdown Input. Connect to GND for normal operation.", 4 GND (power) "Ground", 5 OUT (out) "Current-Sense Output. VOUT is proportional to VSENSE.", 6 FB (in) "Feedback Input. Connect FB to a resistive-divider network to set the gain for the MAX9918 and MAX9920. See the Adjustable Gain (MAX9918/MAX9920) section for more information. Leave FB unconnected for the MAX9919 for proper (See Datasheet)", 7 REFIN (in) "Reference Input. Set REFIN to VCC/2 for bidirectional operation. Set REFIN to GND for unidirectional operation.", 8 VCC (power) "5V Supply Voltage Input. Bypass VCC to GND with 0.1uF capacitor.", 9 EP (power) "Exposed Pad. Connect to a large-area contiguous ground plane for improved power dissipation. Do not use as the only ground connection for the part."